# Altium schematic symbol library SDT024TFT.Schlib: 1 symbol
Pins are listed as number, name and electrical type; pins without a type are passive.

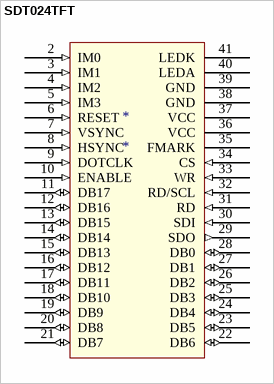
[diagram p0: symbol SDT024TFT]

## SDT024TFT
designator *
pins: 2 IM0 (in), 3 IM1 (in), 4 IM2 (in), 5 IM3 (in), 6 RESET (in), 7 VSYNC (in), 8 HSYNC (in), 9 DOTCLK (in), 10 ENABLE (in), 11 DB17 (io), 12 DB16 (io), 13 DB15 (io), 14 DB14 (io), 15 DB13 (io), 16 DB12 (io), 17 DB11 (io), 18 DB10 (io), 19 DB9 (io), 20 DB8 (io), 21 DB7 (io), 22 DB6 (io), 23 DB5 (io), 24 DB4 (io), 25 DB3 (io), 26 DB2 (io), 27 DB1 (io), 28 DB0 (io), 29 SDO (out), 30 SDI (in), 31 RD (in), 32 RD/SCL (in), 33 WR (in), 34 CS (in), 35 FMARK, 36 VCC (power), 37 VCC (power), 38 GND (power), 39 GND (power), 40 LEDA (power), 41 LEDK (power)